# Altium schematic symbol library 1.8 - WiFi天线-SMA射频座.SchLib: 3 symbols
Pins are listed as number, name and electrical type; pins without a type are passive.

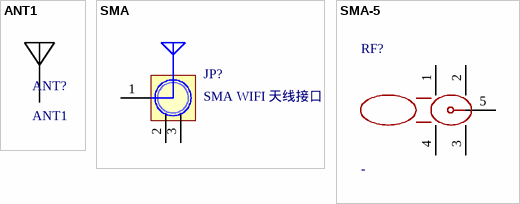
[diagram p0: symbols ANT1 to SMA-5]

## ANT1
designator ANT?
PCB板载天线; 版权归属: 封装库来自淘宝 ID：黄晶宝石; BOM名称: PCB板载天线; 技术支持，联系售后: https://shop463601444.taobao.com
footprint 2.4GANTF0
footprint 2.4GANTF1
footprint 2.4GANTF2
footprint 2.4GANTF3
footprint 2.4GANTF4
footprint 2.4GANTS0
footprint 2.4GANTS8
footprint 2.4GANTS9
footprint WIFI-ANT
pins: 1

## SMA
designator JP?, comment SMA WIFI 天线接口
SMA-2.4G射频天线接口; 版权归属: 封装库来自淘宝 ID：黄晶宝石; BOM名称: SMA-2.4G射频天线接口; 唯一出售店铺网址: https://shop463601444.taobao.com
footprint SMA_FR
footprint SMA-KE (Footprint not found)
footprint SMA-KE-LI (SMA 立式直插射频天线座)
pins: 1 ANT, 2 GND, 3 GND

## SMA-5
designator RF?, comment -
SMA射频天线接口; Manufacturer: BAT WIRELESS(蝙蝠无线); Symbol: BWSMA-KWE-Z001; Add into BOM: yes; Connector Type: 板端; Interface: 内孔; Number of Ports: 1; Interface Diameter: 5.3mm; RF Series: SMA; Impedance: 50Ω; Style: 弯头; Device: BWSMA-KWE-Z001; LCSC Part Name: 内孔 SMA 弯头; Supplier Part: C496551; Manufacturer Part: BWSMA-KWE-Z001; Supplier Footprint: 插件; JLCPCB Part Class: 扩展库; Datasheet: https://item.szlcsc.com/datasheet/BWSMA-KWE-Z001/508500.html; Supplier: LCSC; Convert to PCB: yes; Interface Length/Height: -; Value: -; Operating Temperature Range: -
footprint SMA-TH
pins: 1, 2, 3, 4, 5